# EAGLE library part NRJ6HF-1 (library con_neutrik_ag__Jack6,35)
1/4" stereo jack, switched, full threaded nose, sleeve contact/frontpanel connection Horizontal PCB panel mount jack featuring high board packing density by mounting on 15.88 mm (0.625 inch) minimum centers in rows or arrays. Mounting hardware must be ordered separately.
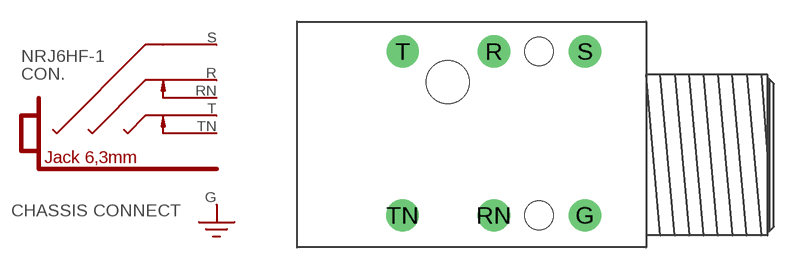
[diagram p4: symbol with the pads of NRJ6HF-1; footprint NRJ6HF-1]

Designator prefix CON; gates .=N*J6**-1 G$2=CASSIS_CONNECT

## NRJ6HF-1  [NRJ6HF-1]
G  G$2:G  pas
R  .:R  pas
RN  .:RN  pas
S  .:S  pas
T  .:T  pas
TN  .:TN  pas

## NRJ6HF-1-AU  [NRJ6HF-1]
Pads as for NRJ6HF-1

## Footprint NRJ6HF-1 (pad centres in mm)
drill 1.5 round: G -4.25,-4.2; R -10.6,7.23; RN -10.6,-4.2; S -4.25,7.23; T -16.94,7.23; TN -16.95,-4.2
hole 2 at -7.45,-4.2
hole 2 at -7.45,7.23
hole 3 at -13.8,5.1